# EAGLE library part XC95144XL (library Xilinx)
Xilinx XC95144XL in a TQ100 package
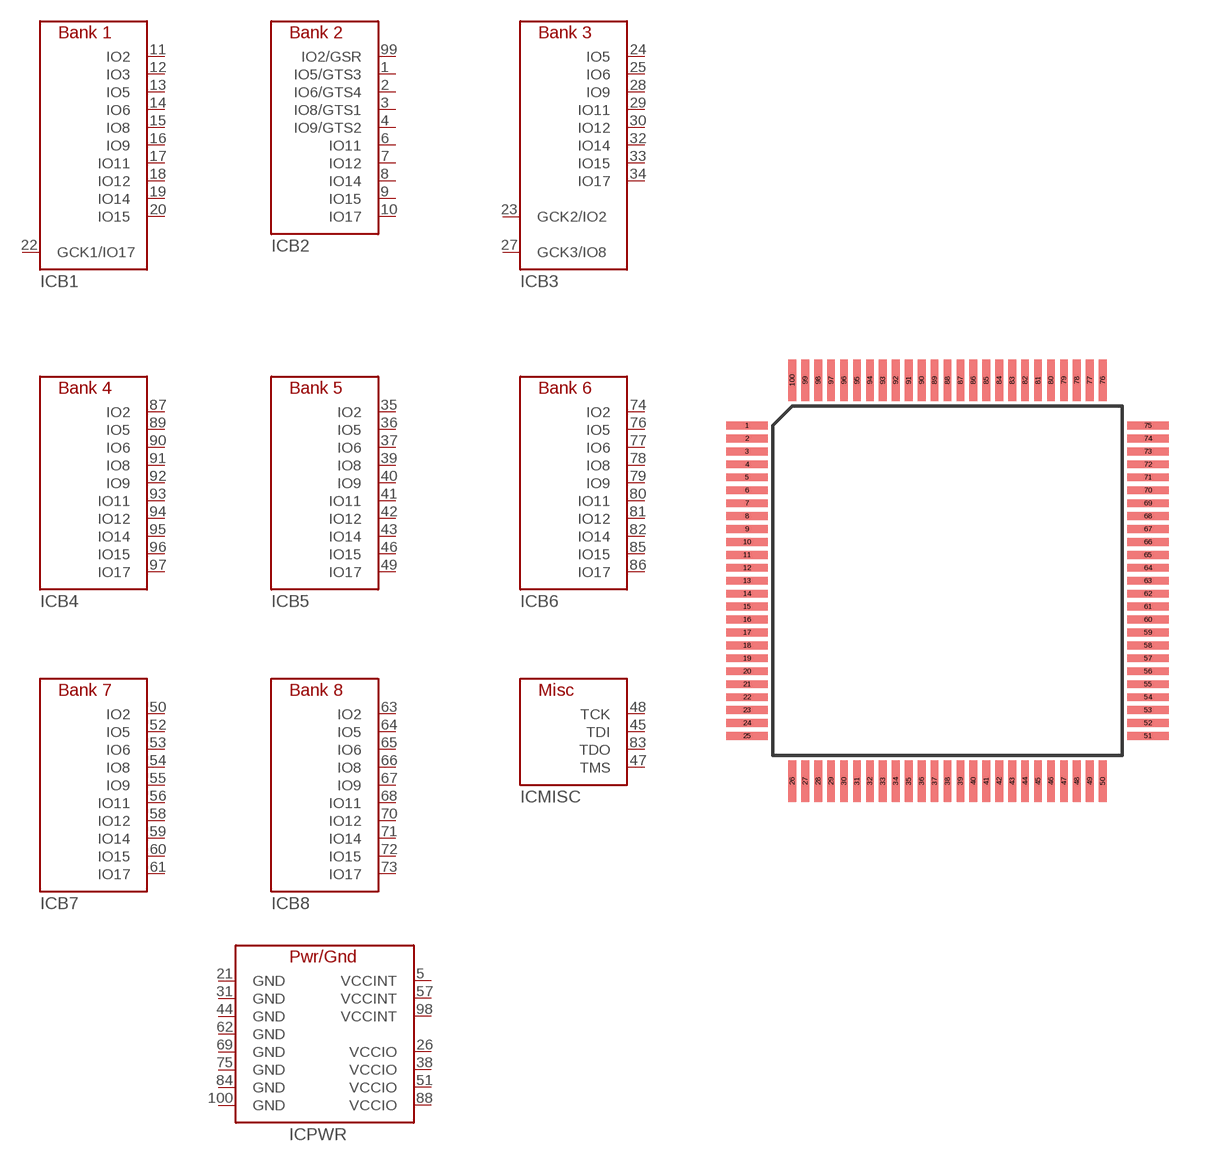
[diagram p33: symbol with the pads of TQ100; footprint TQ100]

Designator prefix IC; gates B1=XC95144XL/TQ100-B1 B2=XC95144XL/TQ100-B2 B3=XC95144XL/TQ100-B3 B4=XC95144XL/TQ100-B4 B5=XC95144XL/TQ100-B5 B6=XC95144XL/TQ100-B6 B7=XC95144XL/TQ100-B7 B8=XC95144XL/TQ100-B8 MISC=XC95144XL/TQ100-MISC PWR=XC95144XL/TQ100-PWR

## XC95144XL-TQ100  [TQ100]
1  B2:IO5/GTS3
2  B2:IO6/GTS4
3  B2:IO8/GTS1
4  B2:IO9/GTS2
5  PWR:VCCINT  pwr
6  B2:IO11
7  B2:IO12
8  B2:IO14
9  B2:IO15
10  B2:IO17
11  B1:IO2
12  B1:IO3
13  B1:IO5
14  B1:IO6
15  B1:IO8
16  B1:IO9
17  B1:IO11
18  B1:IO12
19  B1:IO14
20  B1:IO15
21  PWR:GND  pwr
22  B1:GCK1/IO17
23  B3:GCK2/IO2
24  B3:IO5
25  B3:IO6
26  PWR:VCCIO  pwr
27  B3:GCK3/IO8
28  B3:IO9
29  B3:IO11
30  B3:IO12
31  PWR:GND  pwr
32  B3:IO14
33  B3:IO15
34  B3:IO17
35  B5:IO2
36  B5:IO5
37  B5:IO6
38  PWR:VCCIO  pwr
39  B5:IO8
40  B5:IO9
41  B5:IO11
42  B5:IO12
43  B5:IO14
44  PWR:GND  pwr
45  MISC:TDI
46  B5:IO15
47  MISC:TMS
48  MISC:TCK
49  B5:IO17
50  B7:IO2
51  PWR:VCCIO  pwr
52  B7:IO5
53  B7:IO6
54  B7:IO8
55  B7:IO9
56  B7:IO11
57  PWR:VCCINT  pwr
58  B7:IO12
59  B7:IO14
60  B7:IO15
61  B7:IO17
62  PWR:GND  pwr
63  B8:IO2
64  B8:IO5
65  B8:IO6
66  B8:IO8
67  B8:IO9
68  B8:IO11
69  PWR:GND  pwr
70  B8:IO12
71  B8:IO14
72  B8:IO15
73  B8:IO17
74  B6:IO2
75  PWR:GND  pwr
76  B6:IO5
77  B6:IO6
78  B6:IO8
79  B6:IO9
80  B6:IO11
81  B6:IO12
82  B6:IO14
83  MISC:TDO
84  PWR:GND  pwr
85  B6:IO15
86  B6:IO17
87  B4:IO2
88  PWR:VCCIO  pwr
89  B4:IO5
90  B4:IO6
91  B4:IO8
92  B4:IO9
93  B4:IO11
94  B4:IO12
95  B4:IO14
96  B4:IO15
97  B4:IO17
98  PWR:VCCINT  pwr
99  B2:IO2/GSR
100  PWR:GND  pwr

## Footprint TQ100 (pad centres in mm)
smd 1.6 x 0.3: 1 -7.75,6; 2 -7.75,5.5; 3 -7.75,5; 4 -7.75,4.5; 5 -7.75,4; 6 -7.75,3.5; 7 -7.75,3; 8 -7.75,2.5; 9 -7.75,2; 10 -7.75,1.5; 11 -7.75,1; 12 -7.75,0.5; 13 -7.75,0; 14 -7.75,-0.5; 15 -7.75,-1; 16 -7.75,-1.5; 17 -7.75,-2; 18 -7.75,-2.5; 19 -7.75,-3; 20 -7.75,-3.5; 21 -7.75,-4; 22 -7.75,-4.5; 23 -7.75,-5; 24 -7.75,-5.5; 25 -7.75,-6; 51 7.75,-6; 52 7.75,-5.5; 53 7.75,-5; 54 7.75,-4.5; 55 7.75,-4; 56 7.75,-3.5; 57 7.75,-3; 58 7.75,-2.5; 59 7.75,-2; 60 7.75,-1.5; 61 7.75,-1; 62 7.75,-0.5; 63 7.75,0; 64 7.75,0.5; 65 7.75,1; 66 7.75,1.5; 67 7.75,2; 68 7.75,2.5; 69 7.75,3; 70 7.75,3.5; 71 7.75,4; 72 7.75,4.5; 73 7.75,5; 74 7.75,5.5; 75 7.75,6
smd 0.3 x 1.6: 26 -6,-7.75; 27 -5.5,-7.75; 28 -5,-7.75; 29 -4.5,-7.75; 30 -4,-7.75; 31 -3.5,-7.75; 32 -3,-7.75; 33 -2.5,-7.75; 34 -2,-7.75; 35 -1.5,-7.75; 36 -1,-7.75; 37 -0.5,-7.75; 38 0,-7.75; 39 0.5,-7.75; 40 1,-7.75; 41 1.5,-7.75; 42 2,-7.75; 43 2.5,-7.75; 44 3,-7.75; 45 3.5,-7.75; 46 4,-7.75; 47 4.5,-7.75; 48 5,-7.75; 49 5.5,-7.75; 50 6,-7.75; 76 6,7.75; 77 5.5,7.75; 78 5,7.75; 79 4.5,7.75; 80 4,7.75; 81 3.5,7.75; 82 3,7.75; 83 2.5,7.75; 84 2,7.75; 85 1.5,7.75; 86 1,7.75; 87 0.5,7.75; 88 0,7.75; 89 -0.5,7.75; 90 -1,7.75; 91 -1.5,7.75; 92 -2,7.75; 93 -2.5,7.75; 94 -3,7.75; 95 -3.5,7.75; 96 -4,7.75; 97 -4.5,7.75; 98 -5,7.75; 99 -5.5,7.75; 100 -6,7.75